# Altium schematic symbol library VNC2-32.SchLib: 1 symbol
Pins are listed as number, name and electrical type; pins without a type are passive.

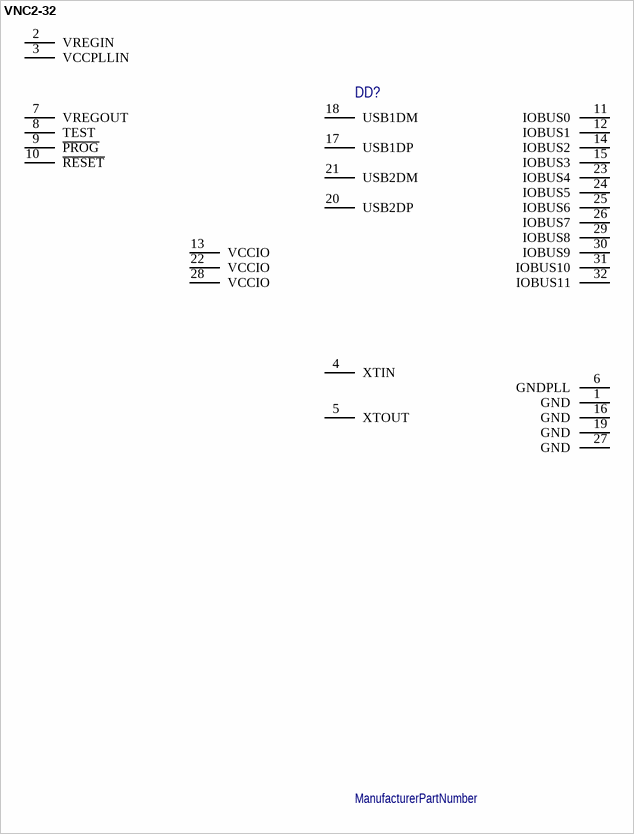
[diagram p0: symbol VNC2-32]

## VNC2-32
designator DD?  (value not drawn)
ManufacturerPartNumber: ManufacturerPartNumber
pins: 1 GND, 2 VREGIN, 3 VCCPLLIN, 4 XTIN, 5 XTOUT, 6 GNDPLL, 7 VREGOUT, 8 TEST, 9 ~{PROG}, 10 ~{RESET}, 11 IOBUS0, 12 IOBUS1, 13 VCCIO, 14 IOBUS2, 15 IOBUS3, 16 GND, 17 USB1DP, 18 USB1DM, 19 GND, 20 USB2DP, 21 USB2DM, 22 VCCIO, 23 IOBUS4, 24 IOBUS5, 25 IOBUS6, 26 IOBUS7, 27 GND, 28 VCCIO, 29 IOBUS8, 30 IOBUS9, 31 IOBUS10, 32 IOBUS11